# Altium schematic symbol library CAP 16V.SchLib: 3 symbols
Pins are listed as number, name and electrical type; pins without a type are passive.

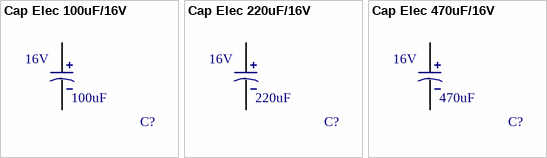
[diagram p0: symbols Cap Elec 100uF/16V to Cap Elec 470uF/16V]

## Cap Elec 100uF/16V
designator C?  Capacitance: 100uF  Voltage: 16V  (hidden comment: Cap Elec 100uF/16V)
100µF 16V Aluminum Electrolytic Capacitors Radial; Manufacturer 1: KEMET; Manufacturer 1 PN: ESK107M016AC3AA; Mouser PN: 80-ESK107M016AC3AA; Digikey PN: 399-6601-ND; ComponentLink1Description: Datasheet; ComponentLink1URL: https://content.kemet.com/datasheets/KEM_A4004_ESK.pdf
footprint Cap Elec 100uF/16V (100µF 16V Aluminum Electrolytic Capacitors Radial)
pins: 1, 2

## Cap Elec 220uF/16V
designator C?, comment Capacitance: 220uF  Voltage: 16V  (hidden comment: Cap Elec 220uF/16V*)
220µF 16V Aluminum Electrolytic Capacitors Radial, Can 7000 Hrs @ 105°C; Manufacturer 1: Rubycon; Manufacturer 1 PN: 16YXJ220MT16.3X11; Manufacturer 2 PN: 860020373010; Mouser PN: 710-860020373010; Manufacturer 2: Wurth Electronics; Digikey PN: 1189-1546-3-ND
footprint Cap Elec 220uF/16V (220µF 16V Aluminum Electrolytic Capacitors Radial, Can 7000 Hrs @ 105°C)
pins: 1, 2

## Cap Elec 470uF/16V
designator C?  Capacitance: 470uF  Voltage: 16V  (hidden comment: Cap Elec 470uF/16V)
470µF 16V Aluminum Electrolytic Capacitors Radial, Can  8000 Hrs @ 105°C; Manufacturer 1: Rubycon; Manufacturer 1 PN: 16ZLH470MEFC8X11.5; Manufacturer 2 PN: ESK477M016AH1EA; Mouser PN: 80-ESK477M016AH1EA; ComponentLink1Description: Datasheet; ComponentLink1URL: http://www.rubycon.co.jp/en/catalog/e_pdfs/aluminum/e_zlh.pdf; Manufacturer 2: KEMET; Digikey PN: 1189-1859-ND
footprint Cap Elec 470uF/16V (470µF 16V Aluminum Electrolytic Capacitors Radial, Can  8000 Hrs @ 105°C)
pins: 1, 2